# EAGLE library part TPS61236P (library FPV-Auto)
TPS61236P TPS6123x 8-A Valley Current Synchronous Boost Converters with Constant Current Output Feature datasheet (Rev. A) Links Datasheet <http://www.ti.com/lit/ds/symlink/tps61236p.pdf> Product website <http://www.ti.com/product/TPS61236P>
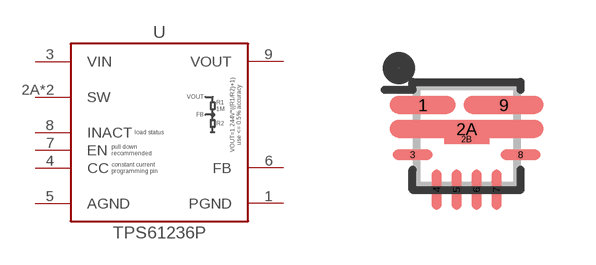
[diagram p0: symbol with the pads of RWL(S-PQFP-N9)_LONG; footprint RWL(S-PQFP-N9)_LONG]

Designator prefix U

## TPS61236P  [RWL(S-PQFP-N9)_LONG]
1  PGND  pwr
2A  SW  out
2B  SW  out
3  VIN  pwr
4  CC  in
5  AGND  pwr
6  FB  in
7  EN  in
8  INACT  oc
9  VOUT  sup

## Footprint RWL(S-PQFP-N9)_LONG (pad centres in mm)
http://www.ti.com/lit/ml/mpqf425/mpqf425.pdf
smd 1.65 x 0.45: 1 -1.1,0.77
smd 3.85 x 0.45: 2A 0,0.17
smd 1.125 x 0.225: 2B 0,-0.092
smd 1 x 0.25: 3 -1.35,-0.475; 8 1.35,-0.475
smd 0.25 x 1: 4 -0.75,-1.35; 5 -0.25,-1.35; 6 0.25,-1.35; 7 0.75,-1.35
smd 2 x 0.45: 9 0.925,0.77